# Altium footprint library MMT-120-02-S-DH.PcbLib: 1 footprints
Each footprint in its own frame and in the unit in brackets; x right, y up, seen from the top. Pads: shape width x height; smd on the part's side, far side on the other; paste and mask are expansions set on the pad; w line width, h text height; cw(c..) or ccw(c..) is an arc to the next point about the centre after c.
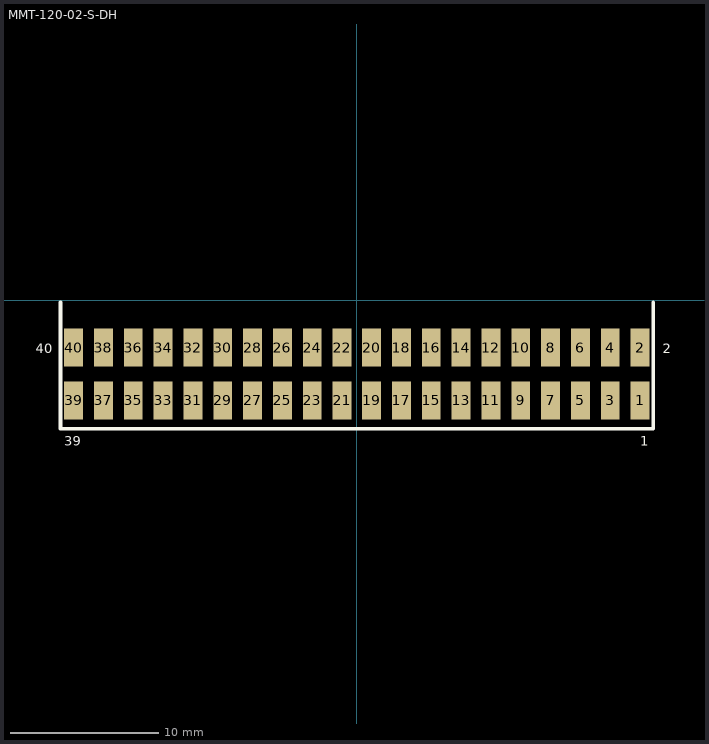
[diagram p0: the footprint, top view; thin cyan lines are the x and y axes]

## MMT-120-02-S-DH [mil]
pads (40):
  rect 50x100 smd: 1(750,-265) 2(750,-125) 3(671,-265) 4(671,-125) 5(592,-265) 6(592,-125) 7(513,-265) 8(513,-125) 9(434,-265) 10(434,-125) 11(355,-265) 12(355,-125) 13(276,-265) 14(276,-125) 15(197,-265) 16(197,-125) 17(118,-265) 18(118,-125) 19(39,-265) 20(39,-125) 21(-39,-265) 22(-39,-125) 23(-118,-265) 24(-118,-125) 25(-197,-265) 26(-197,-125) 27(-276,-265) 28(-276,-125) 29(-355,-265) 30(-355,-125) 31(-434,-265) 32(-434,-125) 33(-513,-265) 34(-513,-125) 35(-592,-265) 36(-592,-125) 37(-671,-265) 38(-671,-125) 39(-750,-265) 40(-750,-125)
TopOverlay:
  lines w10: -785,-5 -785,-340 0,-340 785,-340 785,-5
  text "39" at -775,-385 h25
  text "40" at -850,-140 h25
  text "2" at 810,-140 h25
  text "1" at 750,-385 h25
3D body: height 158.11, standoff 0.63, extent -787.52,-286.55 787.28,212.19